# Altium schematic symbol library BT138-800.SchLib: 1 symbol
Pins are listed as number, name and electrical type; pins without a type are passive.

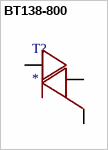
[diagram p0: symbol BT138-800]

## BT138-800
designator T?
footprint TO220AB
pins: 1 T1, 2 T2, 3 G "Termal Pad"